# EAGLE library part MCP73833 (library parts)
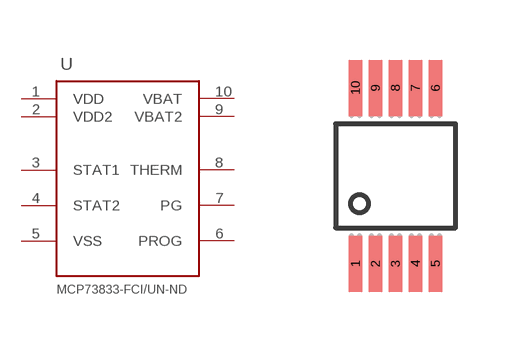
[diagram p8: symbol with the pads of 10-MSOP; footprint 10-MSOP]

Designator prefix U

## MCP73833  [10-MSOP]
1  VDD
2  VDD2
3  STAT1
4  STAT2
5  VSS
6  PROG
7  PG
8  THERM
9  VBAT2
10  VBAT

## Footprint 10-MSOP (pad centres in mm)
smd 0.33 x 1.4: 1 -1,-2.2; 2 -0.5,-2.2; 3 0,-2.2; 4 0.5,-2.2; 5 1,-2.2; 6 1,2.2; 7 0.5,2.2; 8 0,2.2; 9 -0.5,2.2; 10 -1,2.2